# Altium schematic symbol library 0705530003.SchLib: 1 symbol
Pins are listed as number, name and electrical type; pins without a type are passive.

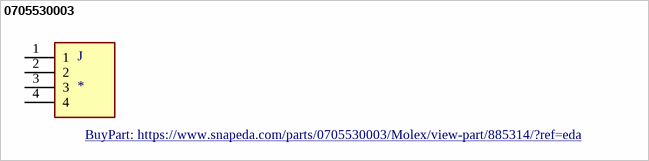
[diagram p0: symbol 0705530003]

## 0705530003
designator J
Connector Header Through Hole, Right Angle 4 position 0.100 (2.54mm); MP: 0705530003; MF: Molex; DigiKey-Purchase-URL: https://snapeda.com/shop?store=DigiKey&id=885314; SnapEDA_Link: https://www.snapeda.com/parts/0705530003/Molex/view-part/885314/?ref=snap; Arrow_Electronics-Purchase-URL: https://snapeda.com/shop?store=Arrow+Electronics&id=885314; Availability: Good; Package: None; Value: *; Price: None; BuyPart: https://www.snapeda.com/parts/0705530003/Molex/view-part/885314/?ref=eda
footprint MOLEX_0705530003
pins: 1, 2, 3, 4